# EAGLE library part ST890CDR (library ce-capstone)
ST890 Series 1.2 A Limited High Side Power Switch with Thermal Shutdown - SOIC-8
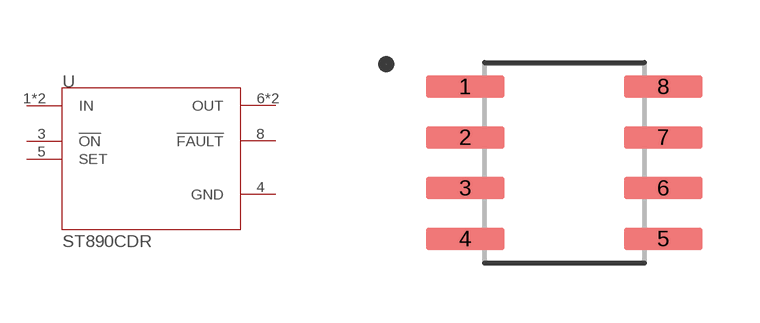
[diagram p1: symbol with the pads of SOIC127P600X175-8N; footprint SOIC127P600X175-8N]

Designator prefix U

## ST890CDR (AVAILABILITY: Unavailable; DESCRIPTION: Power Switch/Driver 1:1 P-Channel 1.2A 8-SO; MF: STMicroelectronics; MP: ST890CDR; PACKAGE: SOIC-8 STMicroelectronics; PRICE: None)  [SOIC127P600X175-8N]
1  IN  in
2  IN  in
3  !ON  in
4  GND  pwr
5  SET  in
6  OUT  out
7  OUT  out
8  !FAULT  out

## Footprint SOIC127P600X175-8N (pad centres in mm)
smd 1.97 x 0.57: 1 -2.475,1.905; 2 -2.475,0.635; 3 -2.475,-0.635; 4 -2.475,-1.905; 5 2.475,-1.905; 6 2.475,-0.635; 7 2.475,0.635; 8 2.475,1.905